# Altium footprint library QFP_Shrink_Sq_40P_Side_L.PcbLib: 26 footprints (part 2 of 3)
Each footprint in its own frame and in the unit in brackets; x right, y up, seen from the top. Pads: shape width x height; smd on the part's side, far side on the other; paste and mask are expansions set on the pad; w line width, h text height; cw(c..) or ccw(c..) is an arc to the next point about the centre after c.
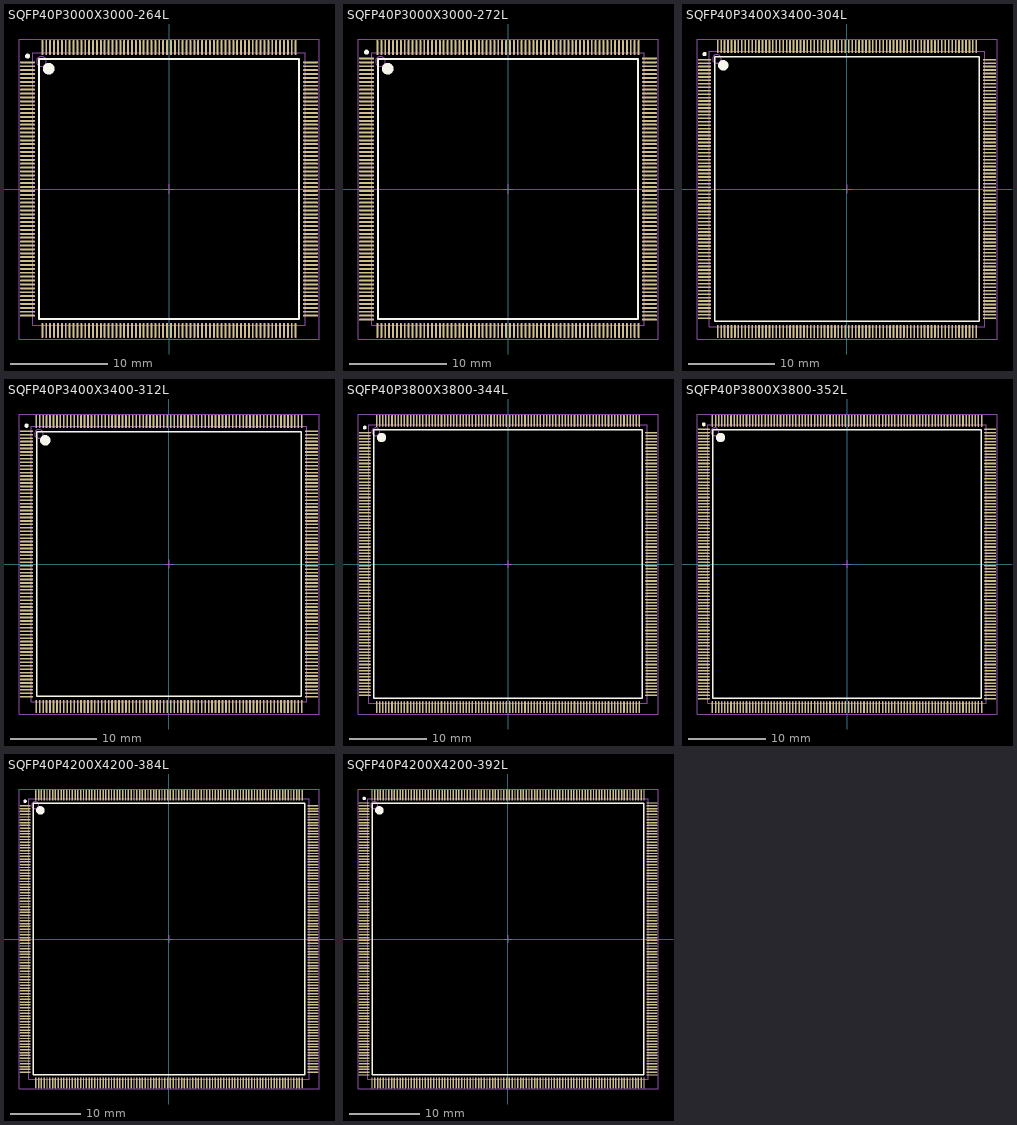
[diagram p1: the footprints below, top view; thin cyan lines are the x and y axes]

## SQFP40P3000X3000-264L [mm] "Shrink QFP, 264-Leads, Body 28x28mm, Pitch 0.4mm, IPC High Density"
height 3.75
pads (264):
  oval 1.55x0.2 smd: 1(-14.525,13) 2(-14.525,12.6) 3(-14.525,12.2) 4(-14.525,11.8) 5(-14.525,11.4) 6(-14.525,11) 7(-14.525,10.6) 8(-14.525,10.2) 9(-14.525,9.8) 10(-14.525,9.4) 11(-14.525,9) 12(-14.525,8.6) 13(-14.525,8.2) 14(-14.525,7.8) 15(-14.525,7.4) 16(-14.525,7) 17(-14.525,6.6) 18(-14.525,6.2) 19(-14.525,5.8) 20(-14.525,5.4) 21(-14.525,5) 22(-14.525,4.6) 23(-14.525,4.2) 24(-14.525,3.8) 25(-14.525,3.4) 26(-14.525,3) 27(-14.525,2.6) 28(-14.525,2.2) 29(-14.525,1.8) 30(-14.525,1.4) 31(-14.525,1) 32(-14.525,0.6) 33(-14.525,0.2) 34(-14.525,-0.2) 35(-14.525,-0.6) 36(-14.525,-1) 37(-14.525,-1.4) 38(-14.525,-1.8) 39(-14.525,-2.2) 40(-14.525,-2.6) 41(-14.525,-3) 42(-14.525,-3.4) 43(-14.525,-3.8) 44(-14.525,-4.2) 45(-14.525,-4.6) 46(-14.525,-5) 47(-14.525,-5.4) 48(-14.525,-5.8) 49(-14.525,-6.2) 50(-14.525,-6.6) 51(-14.525,-7) 52(-14.525,-7.4) 53(-14.525,-7.8) 54(-14.525,-8.2) 55(-14.525,-8.6) 56(-14.525,-9) 57(-14.525,-9.4) 58(-14.525,-9.8) 59(-14.525,-10.2) 60(-14.525,-10.6) 61(-14.525,-11) 62(-14.525,-11.4) 63(-14.525,-11.8) 64(-14.525,-12.2) 65(-14.525,-12.6) 66(-14.525,-13) 133(14.525,-13) 134(14.525,-12.6) 135(14.525,-12.2) 136(14.525,-11.8) 137(14.525,-11.4) 138(14.525,-11) 139(14.525,-10.6) 140(14.525,-10.2) 141(14.525,-9.8) 142(14.525,-9.4) 143(14.525,-9) 144(14.525,-8.6) 145(14.525,-8.2) 146(14.525,-7.8) 147(14.525,-7.4) 148(14.525,-7) 149(14.525,-6.6) 150(14.525,-6.2) 151(14.525,-5.8) 152(14.525,-5.4) 153(14.525,-5) 154(14.525,-4.6) 155(14.525,-4.2) 156(14.525,-3.8) 157(14.525,-3.4) 158(14.525,-3) 159(14.525,-2.6) 160(14.525,-2.2) 161(14.525,-1.8) 162(14.525,-1.4) 163(14.525,-1) 164(14.525,-0.6) 165(14.525,-0.2) 166(14.525,0.2) 167(14.525,0.6) 168(14.525,1) 169(14.525,1.4) 170(14.525,1.8) 171(14.525,2.2) 172(14.525,2.6) 173(14.525,3) 174(14.525,3.4) 175(14.525,3.8) 176(14.525,4.2) 177(14.525,4.6) 178(14.525,5) 179(14.525,5.4) 180(14.525,5.8) 181(14.525,6.2) 182(14.525,6.6) 183(14.525,7) 184(14.525,7.4) 185(14.525,7.8) 186(14.525,8.2) 187(14.525,8.6) 188(14.525,9) 189(14.525,9.4) 190(14.525,9.8) 191(14.525,10.2) 192(14.525,10.6) 193(14.525,11) 194(14.525,11.4) 195(14.525,11.8) 196(14.525,12.2) 197(14.525,12.6) 198(14.525,13)
  oval 0.2x1.55 smd: 67(-13,-14.525) 68(-12.6,-14.525) 69(-12.2,-14.525) 70(-11.8,-14.525) 71(-11.4,-14.525) 72(-11,-14.525) 73(-10.6,-14.525) 74(-10.2,-14.525) 75(-9.8,-14.525) 76(-9.4,-14.525) 77(-9,-14.525) 78(-8.6,-14.525) 79(-8.2,-14.525) 80(-7.8,-14.525) 81(-7.4,-14.525) 82(-7,-14.525) 83(-6.6,-14.525) 84(-6.2,-14.525) 85(-5.8,-14.525) 86(-5.4,-14.525) 87(-5,-14.525) 88(-4.6,-14.525) 89(-4.2,-14.525) 90(-3.8,-14.525) 91(-3.4,-14.525) 92(-3,-14.525) 93(-2.6,-14.525) 94(-2.2,-14.525) 95(-1.8,-14.525) 96(-1.4,-14.525) 97(-1,-14.525) 98(-0.6,-14.525) 99(-0.2,-14.525) 100(0.2,-14.525) 101(0.6,-14.525) 102(1,-14.525) 103(1.4,-14.525) 104(1.8,-14.525) 105(2.2,-14.525) 106(2.6,-14.525) 107(3,-14.525) 108(3.4,-14.525) 109(3.8,-14.525) 110(4.2,-14.525) 111(4.6,-14.525) 112(5,-14.525) 113(5.4,-14.525) 114(5.8,-14.525) 115(6.2,-14.525) 116(6.6,-14.525) 117(7,-14.525) 118(7.4,-14.525) 119(7.8,-14.525) 120(8.2,-14.525) 121(8.6,-14.525) 122(9,-14.525) 123(9.4,-14.525) 124(9.8,-14.525) 125(10.2,-14.525) 126(10.6,-14.525) 127(11,-14.525) 128(11.4,-14.525) 129(11.8,-14.525) 130(12.2,-14.525) 131(12.6,-14.525) 132(13,-14.525) 199(13,14.525) 200(12.6,14.525) 201(12.2,14.525) 202(11.8,14.525) 203(11.4,14.525) 204(11,14.525) 205(10.6,14.525) 206(10.2,14.525) 207(9.8,14.525) 208(9.4,14.525) 209(9,14.525) 210(8.6,14.525) 211(8.2,14.525) 212(7.8,14.525) 213(7.4,14.525) 214(7,14.525) 215(6.6,14.525) 216(6.2,14.525) 217(5.8,14.525) 218(5.4,14.525) 219(5,14.525) 220(4.6,14.525) 221(4.2,14.525) 222(3.8,14.525) 223(3.4,14.525) 224(3,14.525) 225(2.6,14.525) 226(2.2,14.525) 227(1.8,14.525) 228(1.4,14.525) 229(1,14.525) 230(0.6,14.525) 231(0.2,14.525) 232(-0.2,14.525) 233(-0.6,14.525) 234(-1,14.525) 235(-1.4,14.525) 236(-1.8,14.525) 237(-2.2,14.525) 238(-2.6,14.525) 239(-3,14.525) 240(-3.4,14.525) 241(-3.8,14.525) 242(-4.2,14.525) 243(-4.6,14.525) 244(-5,14.525) 245(-5.4,14.525) 246(-5.8,14.525) 247(-6.2,14.525) 248(-6.6,14.525) 249(-7,14.525) 250(-7.4,14.525) 251(-7.8,14.525) 252(-8.2,14.525) 253(-8.6,14.525) 254(-9,14.525) 255(-9.4,14.525) 256(-9.8,14.525) 257(-10.2,14.525) 258(-10.6,14.525) 259(-11,14.525) 260(-11.4,14.525) 261(-11.8,14.525) 262(-12.2,14.525) 263(-12.6,14.525) 264(-13,14.525)
Top Overlay:
  circle w0.6: c-12.35,12.35 r0.3
  circle w0.25: c-14.525,13.65 r0.125
  lines w0.2: -13.35,-13.35 13.35,-13.35 13.35,13.35 -13.35,13.35 -13.35,-13.35
Mechanical 13:
  circle w0.1: c-13.1,13.1 r0.5
  lines w0.1: -14,-14 14,-14 14,14 -14,14 -14,-14
Mechanical 15:
  lines w0.1: -0.5,0 0.5,0 ; 0,-0.5 0,0.5 ; -15.4,-15.4 15.4,-15.4 15.4,15.4 -15.4,15.4 -15.4,-15.4
3D body: height 3.75, standoff 0, extent -14,-14 14,14

## SQFP40P3000X3000-272L [mm] "Shrink QFP, 272-Leads, Body 28x28mm, Pitch 0.4mm, IPC High Density"
height 3.75
pads (272):
  oval 1.55x0.2 smd: 1(-14.525,13.4) 2(-14.525,13) 3(-14.525,12.6) 4(-14.525,12.2) 5(-14.525,11.8) 6(-14.525,11.4) 7(-14.525,11) 8(-14.525,10.6) 9(-14.525,10.2) 10(-14.525,9.8) 11(-14.525,9.4) 12(-14.525,9) 13(-14.525,8.6) 14(-14.525,8.2) 15(-14.525,7.8) 16(-14.525,7.4) 17(-14.525,7) 18(-14.525,6.6) 19(-14.525,6.2) 20(-14.525,5.8) 21(-14.525,5.4) 22(-14.525,5) 23(-14.525,4.6) 24(-14.525,4.2) 25(-14.525,3.8) 26(-14.525,3.4) 27(-14.525,3) 28(-14.525,2.6) 29(-14.525,2.2) 30(-14.525,1.8) 31(-14.525,1.4) 32(-14.525,1) 33(-14.525,0.6) 34(-14.525,0.2) 35(-14.525,-0.2) 36(-14.525,-0.6) 37(-14.525,-1) 38(-14.525,-1.4) 39(-14.525,-1.8) 40(-14.525,-2.2) 41(-14.525,-2.6) 42(-14.525,-3) 43(-14.525,-3.4) 44(-14.525,-3.8) 45(-14.525,-4.2) 46(-14.525,-4.6) 47(-14.525,-5) 48(-14.525,-5.4) 49(-14.525,-5.8) 50(-14.525,-6.2) 51(-14.525,-6.6) 52(-14.525,-7) 53(-14.525,-7.4) 54(-14.525,-7.8) 55(-14.525,-8.2) 56(-14.525,-8.6) 57(-14.525,-9) 58(-14.525,-9.4) 59(-14.525,-9.8) 60(-14.525,-10.2) 61(-14.525,-10.6) 62(-14.525,-11) 63(-14.525,-11.4) 64(-14.525,-11.8) 65(-14.525,-12.2) 66(-14.525,-12.6) 67(-14.525,-13) 68(-14.525,-13.4) 137(14.525,-13.4) 138(14.525,-13) 139(14.525,-12.6) 140(14.525,-12.2) 141(14.525,-11.8) 142(14.525,-11.4) 143(14.525,-11) 144(14.525,-10.6) 145(14.525,-10.2) 146(14.525,-9.8) 147(14.525,-9.4) 148(14.525,-9) 149(14.525,-8.6) 150(14.525,-8.2) 151(14.525,-7.8) 152(14.525,-7.4) 153(14.525,-7) 154(14.525,-6.6) 155(14.525,-6.2) 156(14.525,-5.8) 157(14.525,-5.4) 158(14.525,-5) 159(14.525,-4.6) 160(14.525,-4.2) 161(14.525,-3.8) 162(14.525,-3.4) 163(14.525,-3) 164(14.525,-2.6) 165(14.525,-2.2) 166(14.525,-1.8) 167(14.525,-1.4) 168(14.525,-1) 169(14.525,-0.6) 170(14.525,-0.2) 171(14.525,0.2) 172(14.525,0.6) 173(14.525,1) 174(14.525,1.4) 175(14.525,1.8) 176(14.525,2.2) 177(14.525,2.6) 178(14.525,3) 179(14.525,3.4) 180(14.525,3.8) 181(14.525,4.2) 182(14.525,4.6) 183(14.525,5) 184(14.525,5.4) 185(14.525,5.8) 186(14.525,6.2) 187(14.525,6.6) 188(14.525,7) 189(14.525,7.4) 190(14.525,7.8) 191(14.525,8.2) 192(14.525,8.6) 193(14.525,9) 194(14.525,9.4) 195(14.525,9.8) 196(14.525,10.2) 197(14.525,10.6) 198(14.525,11) 199(14.525,11.4) 200(14.525,11.8) 201(14.525,12.2) 202(14.525,12.6) 203(14.525,13) 204(14.525,13.4)
  oval 0.2x1.55 smd: 69(-13.4,-14.525) 70(-13,-14.525) 71(-12.6,-14.525) 72(-12.2,-14.525) 73(-11.8,-14.525) 74(-11.4,-14.525) 75(-11,-14.525) 76(-10.6,-14.525) 77(-10.2,-14.525) 78(-9.8,-14.525) 79(-9.4,-14.525) 80(-9,-14.525) 81(-8.6,-14.525) 82(-8.2,-14.525) 83(-7.8,-14.525) 84(-7.4,-14.525) 85(-7,-14.525) 86(-6.6,-14.525) 87(-6.2,-14.525) 88(-5.8,-14.525) 89(-5.4,-14.525) 90(-5,-14.525) 91(-4.6,-14.525) 92(-4.2,-14.525) 93(-3.8,-14.525) 94(-3.4,-14.525) 95(-3,-14.525) 96(-2.6,-14.525) 97(-2.2,-14.525) 98(-1.8,-14.525) 99(-1.4,-14.525) 100(-1,-14.525) 101(-0.6,-14.525) 102(-0.2,-14.525) 103(0.2,-14.525) 104(0.6,-14.525) 105(1,-14.525) 106(1.4,-14.525) 107(1.8,-14.525) 108(2.2,-14.525) 109(2.6,-14.525) 110(3,-14.525) 111(3.4,-14.525) 112(3.8,-14.525) 113(4.2,-14.525) 114(4.6,-14.525) 115(5,-14.525) 116(5.4,-14.525) 117(5.8,-14.525) 118(6.2,-14.525) 119(6.6,-14.525) 120(7,-14.525) 121(7.4,-14.525) 122(7.8,-14.525) 123(8.2,-14.525) 124(8.6,-14.525) 125(9,-14.525) 126(9.4,-14.525) 127(9.8,-14.525) 128(10.2,-14.525) 129(10.6,-14.525) 130(11,-14.525) 131(11.4,-14.525) 132(11.8,-14.525) 133(12.2,-14.525) 134(12.6,-14.525) 135(13,-14.525) 136(13.4,-14.525) 205(13.4,14.525) 206(13,14.525) 207(12.6,14.525) 208(12.2,14.525) 209(11.8,14.525) 210(11.4,14.525) 211(11,14.525) 212(10.6,14.525) 213(10.2,14.525) 214(9.8,14.525) 215(9.4,14.525) 216(9,14.525) 217(8.6,14.525) 218(8.2,14.525) 219(7.8,14.525) 220(7.4,14.525) 221(7,14.525) 222(6.6,14.525) 223(6.2,14.525) 224(5.8,14.525) 225(5.4,14.525) 226(5,14.525) 227(4.6,14.525) 228(4.2,14.525) 229(3.8,14.525) 230(3.4,14.525) 231(3,14.525) 232(2.6,14.525) 233(2.2,14.525) 234(1.8,14.525) 235(1.4,14.525) 236(1,14.525) 237(0.6,14.525) 238(0.2,14.525) 239(-0.2,14.525) 240(-0.6,14.525) 241(-1,14.525) 242(-1.4,14.525) 243(-1.8,14.525) 244(-2.2,14.525) 245(-2.6,14.525) 246(-3,14.525) 247(-3.4,14.525) 248(-3.8,14.525) 249(-4.2,14.525) 250(-4.6,14.525) 251(-5,14.525) 252(-5.4,14.525) 253(-5.8,14.525) 254(-6.2,14.525) 255(-6.6,14.525) 256(-7,14.525) 257(-7.4,14.525) 258(-7.8,14.525) 259(-8.2,14.525) 260(-8.6,14.525) 261(-9,14.525) 262(-9.4,14.525) 263(-9.8,14.525) 264(-10.2,14.525) 265(-10.6,14.525) 266(-11,14.525) 267(-11.4,14.525) 268(-11.8,14.525) 269(-12.2,14.525) 270(-12.6,14.525) 271(-13,14.525) 272(-13.4,14.525)
Top Overlay:
  circle w0.6: c-12.35,12.35 r0.3
  circle w0.25: c-14.525,14.05 r0.125
  lines w0.2: -13.35,-13.35 13.35,-13.35 13.35,13.35 -13.35,13.35 -13.35,-13.35
Mechanical 13:
  circle w0.1: c-13.1,13.1 r0.5
  lines w0.1: -14,-14 14,-14 14,14 -14,14 -14,-14
Mechanical 15:
  lines w0.1: -0.5,0 0.5,0 ; 0,-0.5 0,0.5 ; -15.4,-15.4 15.4,-15.4 15.4,15.4 -15.4,15.4 -15.4,-15.4
3D body: height 3.75, standoff 0, extent -14,-14 14,14

## SQFP40P3400X3400-304L [mm] "Shrink QFP, 304-Leads, Body 32x32mm, Pitch 0.4mm, IPC High Density"
height 4.2
pads (304):
  oval 1.55x0.2 smd: 1(-16.525,15) 2(-16.525,14.6) 3(-16.525,14.2) 4(-16.525,13.8) 5(-16.525,13.4) 6(-16.525,13) 7(-16.525,12.6) 8(-16.525,12.2) 9(-16.525,11.8) 10(-16.525,11.4) 11(-16.525,11) 12(-16.525,10.6) 13(-16.525,10.2) 14(-16.525,9.8) 15(-16.525,9.4) 16(-16.525,9) 17(-16.525,8.6) 18(-16.525,8.2) 19(-16.525,7.8) 20(-16.525,7.4) 21(-16.525,7) 22(-16.525,6.6) 23(-16.525,6.2) 24(-16.525,5.8) 25(-16.525,5.4) 26(-16.525,5) 27(-16.525,4.6) 28(-16.525,4.2) 29(-16.525,3.8) 30(-16.525,3.4) 31(-16.525,3) 32(-16.525,2.6) 33(-16.525,2.2) 34(-16.525,1.8) 35(-16.525,1.4) 36(-16.525,1) 37(-16.525,0.6) 38(-16.525,0.2) 39(-16.525,-0.2) 40(-16.525,-0.6) 41(-16.525,-1) 42(-16.525,-1.4) 43(-16.525,-1.8) 44(-16.525,-2.2) 45(-16.525,-2.6) 46(-16.525,-3) 47(-16.525,-3.4) 48(-16.525,-3.8) 49(-16.525,-4.2) 50(-16.525,-4.6) 51(-16.525,-5) 52(-16.525,-5.4) 53(-16.525,-5.8) 54(-16.525,-6.2) 55(-16.525,-6.6) 56(-16.525,-7) 57(-16.525,-7.4) 58(-16.525,-7.8) 59(-16.525,-8.2) 60(-16.525,-8.6) 61(-16.525,-9) 62(-16.525,-9.4) 63(-16.525,-9.8) 64(-16.525,-10.2) 65(-16.525,-10.6) 66(-16.525,-11) 67(-16.525,-11.4) 68(-16.525,-11.8) 69(-16.525,-12.2) 70(-16.525,-12.6) 71(-16.525,-13) 72(-16.525,-13.4) 73(-16.525,-13.8) 74(-16.525,-14.2) 75(-16.525,-14.6) 76(-16.525,-15) 153(16.525,-15) 154(16.525,-14.6) 155(16.525,-14.2) 156(16.525,-13.8) 157(16.525,-13.4) 158(16.525,-13) 159(16.525,-12.6) 160(16.525,-12.2) 161(16.525,-11.8) 162(16.525,-11.4) 163(16.525,-11) 164(16.525,-10.6) 165(16.525,-10.2) 166(16.525,-9.8) 167(16.525,-9.4) 168(16.525,-9) 169(16.525,-8.6) 170(16.525,-8.2) 171(16.525,-7.8) 172(16.525,-7.4) 173(16.525,-7) 174(16.525,-6.6) 175(16.525,-6.2) 176(16.525,-5.8) 177(16.525,-5.4) 178(16.525,-5) 179(16.525,-4.6) 180(16.525,-4.2) 181(16.525,-3.8) 182(16.525,-3.4) 183(16.525,-3) 184(16.525,-2.6) 185(16.525,-2.2) 186(16.525,-1.8) 187(16.525,-1.4) 188(16.525,-1) 189(16.525,-0.6) 190(16.525,-0.2) 191(16.525,0.2) 192(16.525,0.6) 193(16.525,1) 194(16.525,1.4) 195(16.525,1.8) 196(16.525,2.2) 197(16.525,2.6) 198(16.525,3) 199(16.525,3.4) 200(16.525,3.8) 201(16.525,4.2) 202(16.525,4.6) 203(16.525,5) 204(16.525,5.4) 205(16.525,5.8) 206(16.525,6.2) 207(16.525,6.6) 208(16.525,7) 209(16.525,7.4) 210(16.525,7.8) 211(16.525,8.2) 212(16.525,8.6) 213(16.525,9) 214(16.525,9.4) 215(16.525,9.8) 216(16.525,10.2) 217(16.525,10.6) 218(16.525,11) 219(16.525,11.4) 220(16.525,11.8) 221(16.525,12.2) 222(16.525,12.6) 223(16.525,13) 224(16.525,13.4) 225(16.525,13.8) 226(16.525,14.2) 227(16.525,14.6) 228(16.525,15)
  oval 0.2x1.55 smd: 77(-15,-16.525) 78(-14.6,-16.525) 79(-14.2,-16.525) 80(-13.8,-16.525) 81(-13.4,-16.525) 82(-13,-16.525) 83(-12.6,-16.525) 84(-12.2,-16.525) 85(-11.8,-16.525) 86(-11.4,-16.525) 87(-11,-16.525) 88(-10.6,-16.525) 89(-10.2,-16.525) 90(-9.8,-16.525) 91(-9.4,-16.525) 92(-9,-16.525) 93(-8.6,-16.525) 94(-8.2,-16.525) 95(-7.8,-16.525) 96(-7.4,-16.525) 97(-7,-16.525) 98(-6.6,-16.525) 99(-6.2,-16.525) 100(-5.8,-16.525) 101(-5.4,-16.525) 102(-5,-16.525) 103(-4.6,-16.525) 104(-4.2,-16.525) 105(-3.8,-16.525) 106(-3.4,-16.525) 107(-3,-16.525) 108(-2.6,-16.525) 109(-2.2,-16.525) 110(-1.8,-16.525) 111(-1.4,-16.525) 112(-1,-16.525) 113(-0.6,-16.525) 114(-0.2,-16.525) 115(0.2,-16.525) 116(0.6,-16.525) 117(1,-16.525) 118(1.4,-16.525) 119(1.8,-16.525) 120(2.2,-16.525) 121(2.6,-16.525) 122(3,-16.525) 123(3.4,-16.525) 124(3.8,-16.525) 125(4.2,-16.525) 126(4.6,-16.525) 127(5,-16.525) 128(5.4,-16.525) 129(5.8,-16.525) 130(6.2,-16.525) 131(6.6,-16.525) 132(7,-16.525) 133(7.4,-16.525) 134(7.8,-16.525) 135(8.2,-16.525) 136(8.6,-16.525) 137(9,-16.525) 138(9.4,-16.525) 139(9.8,-16.525) 140(10.2,-16.525) 141(10.6,-16.525) 142(11,-16.525) 143(11.4,-16.525) 144(11.8,-16.525) 145(12.2,-16.525) 146(12.6,-16.525) 147(13,-16.525) 148(13.4,-16.525) 149(13.8,-16.525) 150(14.2,-16.525) 151(14.6,-16.525) 152(15,-16.525) 229(15,16.525) 230(14.6,16.525) 231(14.2,16.525) 232(13.8,16.525) 233(13.4,16.525) 234(13,16.525) 235(12.6,16.525) 236(12.2,16.525) 237(11.8,16.525) 238(11.4,16.525) 239(11,16.525) 240(10.6,16.525) 241(10.2,16.525) 242(9.8,16.525) 243(9.4,16.525) 244(9,16.525) 245(8.6,16.525) 246(8.2,16.525) 247(7.8,16.525) 248(7.4,16.525) 249(7,16.525) 250(6.6,16.525) 251(6.2,16.525) 252(5.8,16.525) 253(5.4,16.525) 254(5,16.525) 255(4.6,16.525) 256(4.2,16.525) 257(3.8,16.525) 258(3.4,16.525) 259(3,16.525) 260(2.6,16.525) 261(2.2,16.525) 262(1.8,16.525) 263(1.4,16.525) 264(1,16.525) 265(0.6,16.525) 266(0.2,16.525) 267(-0.2,16.525) 268(-0.6,16.525) 269(-1,16.525) 270(-1.4,16.525) 271(-1.8,16.525) 272(-2.2,16.525) 273(-2.6,16.525) 274(-3,16.525) 275(-3.4,16.525) 276(-3.8,16.525) 277(-4.2,16.525) 278(-4.6,16.525) 279(-5,16.525) 280(-5.4,16.525) 281(-5.8,16.525) 282(-6.2,16.525) 283(-6.6,16.525) 284(-7,16.525) 285(-7.4,16.525) 286(-7.8,16.525) 287(-8.2,16.525) 288(-8.6,16.525) 289(-9,16.525) 290(-9.4,16.525) 291(-9.8,16.525) 292(-10.2,16.525) 293(-10.6,16.525) 294(-11,16.525) 295(-11.4,16.525) 296(-11.8,16.525) 297(-12.2,16.525) 298(-12.6,16.525) 299(-13,16.525) 300(-13.4,16.525) 301(-13.8,16.525) 302(-14.2,16.525) 303(-14.6,16.525) 304(-15,16.525)
Top Overlay:
  circle w0.6: c-14.35,14.35 r0.3
  circle w0.25: c-16.525,15.65 r0.125
  lines w0.2: -15.35,-15.35 15.35,-15.35 15.35,15.35 -15.35,15.35 -15.35,-15.35
Mechanical 13:
  circle w0.1: c-15.1,15.1 r0.5
  lines w0.1: -16,-16 16,-16 16,16 -16,16 -16,-16
Mechanical 15:
  lines w0.1: -0.5,0 0.5,0 ; 0,-0.5 0,0.5 ; -17.4,-17.4 17.4,-17.4 17.4,17.4 -17.4,17.4 -17.4,-17.4
3D body: height 4.2, standoff 0, extent -16,-16 16,16

## SQFP40P3400X3400-312L [mm] "Shrink QFP, 312-Leads, Body 32x32mm, Pitch 0.4mm, IPC High Density"
height 4.2
pads (312):
  oval 1.55x0.2 smd: 1(-16.525,15.4) 2(-16.525,15) 3(-16.525,14.6) 4(-16.525,14.2) 5(-16.525,13.8) 6(-16.525,13.4) 7(-16.525,13) 8(-16.525,12.6) 9(-16.525,12.2) 10(-16.525,11.8) 11(-16.525,11.4) 12(-16.525,11) 13(-16.525,10.6) 14(-16.525,10.2) 15(-16.525,9.8) 16(-16.525,9.4) 17(-16.525,9) 18(-16.525,8.6) 19(-16.525,8.2) 20(-16.525,7.8) 21(-16.525,7.4) 22(-16.525,7) 23(-16.525,6.6) 24(-16.525,6.2) 25(-16.525,5.8) 26(-16.525,5.4) 27(-16.525,5) 28(-16.525,4.6) 29(-16.525,4.2) 30(-16.525,3.8) 31(-16.525,3.4) 32(-16.525,3) 33(-16.525,2.6) 34(-16.525,2.2) 35(-16.525,1.8) 36(-16.525,1.4) 37(-16.525,1) 38(-16.525,0.6) 39(-16.525,0.2) 40(-16.525,-0.2) 41(-16.525,-0.6) 42(-16.525,-1) 43(-16.525,-1.4) 44(-16.525,-1.8) 45(-16.525,-2.2) 46(-16.525,-2.6) 47(-16.525,-3) 48(-16.525,-3.4) 49(-16.525,-3.8) 50(-16.525,-4.2) 51(-16.525,-4.6) 52(-16.525,-5) 53(-16.525,-5.4) 54(-16.525,-5.8) 55(-16.525,-6.2) 56(-16.525,-6.6) 57(-16.525,-7) 58(-16.525,-7.4) 59(-16.525,-7.8) 60(-16.525,-8.2) 61(-16.525,-8.6) 62(-16.525,-9) 63(-16.525,-9.4) 64(-16.525,-9.8) 65(-16.525,-10.2) 66(-16.525,-10.6) 67(-16.525,-11) 68(-16.525,-11.4) 69(-16.525,-11.8) 70(-16.525,-12.2) 71(-16.525,-12.6) 72(-16.525,-13) 73(-16.525,-13.4) 74(-16.525,-13.8) 75(-16.525,-14.2) 76(-16.525,-14.6) 77(-16.525,-15) 78(-16.525,-15.4) 157(16.525,-15.4) 158(16.525,-15) 159(16.525,-14.6) 160(16.525,-14.2) 161(16.525,-13.8) 162(16.525,-13.4) 163(16.525,-13) 164(16.525,-12.6) 165(16.525,-12.2) 166(16.525,-11.8) 167(16.525,-11.4) 168(16.525,-11) 169(16.525,-10.6) 170(16.525,-10.2) 171(16.525,-9.8) 172(16.525,-9.4) 173(16.525,-9) 174(16.525,-8.6) 175(16.525,-8.2) 176(16.525,-7.8) 177(16.525,-7.4) 178(16.525,-7) 179(16.525,-6.6) 180(16.525,-6.2) 181(16.525,-5.8) 182(16.525,-5.4) 183(16.525,-5) 184(16.525,-4.6) 185(16.525,-4.2) 186(16.525,-3.8) 187(16.525,-3.4) 188(16.525,-3) 189(16.525,-2.6) 190(16.525,-2.2) 191(16.525,-1.8) 192(16.525,-1.4) 193(16.525,-1) 194(16.525,-0.6) 195(16.525,-0.2) 196(16.525,0.2) 197(16.525,0.6) 198(16.525,1) 199(16.525,1.4) 200(16.525,1.8) 201(16.525,2.2) 202(16.525,2.6) 203(16.525,3) 204(16.525,3.4) 205(16.525,3.8) 206(16.525,4.2) 207(16.525,4.6) 208(16.525,5) 209(16.525,5.4) 210(16.525,5.8) 211(16.525,6.2) 212(16.525,6.6) 213(16.525,7) 214(16.525,7.4) 215(16.525,7.8) 216(16.525,8.2) 217(16.525,8.6) 218(16.525,9) 219(16.525,9.4) 220(16.525,9.8) 221(16.525,10.2) 222(16.525,10.6) 223(16.525,11) 224(16.525,11.4) 225(16.525,11.8) 226(16.525,12.2) 227(16.525,12.6) 228(16.525,13) 229(16.525,13.4) 230(16.525,13.8) 231(16.525,14.2) 232(16.525,14.6) 233(16.525,15) 234(16.525,15.4)
  oval 0.2x1.55 smd: 79(-15.4,-16.525) 80(-15,-16.525) 81(-14.6,-16.525) 82(-14.2,-16.525) 83(-13.8,-16.525) 84(-13.4,-16.525) 85(-13,-16.525) 86(-12.6,-16.525) 87(-12.2,-16.525) 88(-11.8,-16.525) 89(-11.4,-16.525) 90(-11,-16.525) 91(-10.6,-16.525) 92(-10.2,-16.525) 93(-9.8,-16.525) 94(-9.4,-16.525) 95(-9,-16.525) 96(-8.6,-16.525) 97(-8.2,-16.525) 98(-7.8,-16.525) 99(-7.4,-16.525) 100(-7,-16.525) 101(-6.6,-16.525) 102(-6.2,-16.525) 103(-5.8,-16.525) 104(-5.4,-16.525) 105(-5,-16.525) 106(-4.6,-16.525) 107(-4.2,-16.525) 108(-3.8,-16.525) 109(-3.4,-16.525) 110(-3,-16.525) 111(-2.6,-16.525) 112(-2.2,-16.525) 113(-1.8,-16.525) 114(-1.4,-16.525) 115(-1,-16.525) 116(-0.6,-16.525) 117(-0.2,-16.525) 118(0.2,-16.525) 119(0.6,-16.525) 120(1,-16.525) 121(1.4,-16.525) 122(1.8,-16.525) 123(2.2,-16.525) 124(2.6,-16.525) 125(3,-16.525) 126(3.4,-16.525) 127(3.8,-16.525) 128(4.2,-16.525) 129(4.6,-16.525) 130(5,-16.525) 131(5.4,-16.525) 132(5.8,-16.525) 133(6.2,-16.525) 134(6.6,-16.525) 135(7,-16.525) 136(7.4,-16.525) 137(7.8,-16.525) 138(8.2,-16.525) 139(8.6,-16.525) 140(9,-16.525) 141(9.4,-16.525) 142(9.8,-16.525) 143(10.2,-16.525) 144(10.6,-16.525) 145(11,-16.525) 146(11.4,-16.525) 147(11.8,-16.525) 148(12.2,-16.525) 149(12.6,-16.525) 150(13,-16.525) 151(13.4,-16.525) 152(13.8,-16.525) 153(14.2,-16.525) 154(14.6,-16.525) 155(15,-16.525) 156(15.4,-16.525) 235(15.4,16.525) 236(15,16.525) 237(14.6,16.525) 238(14.2,16.525) 239(13.8,16.525) 240(13.4,16.525) 241(13,16.525) 242(12.6,16.525) 243(12.2,16.525) 244(11.8,16.525) 245(11.4,16.525) 246(11,16.525) 247(10.6,16.525) 248(10.2,16.525) 249(9.8,16.525) 250(9.4,16.525) 251(9,16.525) 252(8.6,16.525) 253(8.2,16.525) 254(7.8,16.525) 255(7.4,16.525) 256(7,16.525) 257(6.6,16.525) 258(6.2,16.525) 259(5.8,16.525) 260(5.4,16.525) 261(5,16.525) 262(4.6,16.525) 263(4.2,16.525) 264(3.8,16.525) 265(3.4,16.525) 266(3,16.525) 267(2.6,16.525) 268(2.2,16.525) 269(1.8,16.525) 270(1.4,16.525) 271(1,16.525) 272(0.6,16.525) 273(0.2,16.525) 274(-0.2,16.525) 275(-0.6,16.525) 276(-1,16.525) 277(-1.4,16.525) 278(-1.8,16.525) 279(-2.2,16.525) 280(-2.6,16.525) 281(-3,16.525) 282(-3.4,16.525) 283(-3.8,16.525) 284(-4.2,16.525) 285(-4.6,16.525) 286(-5,16.525) 287(-5.4,16.525) 288(-5.8,16.525) 289(-6.2,16.525) 290(-6.6,16.525) 291(-7,16.525) 292(-7.4,16.525) 293(-7.8,16.525) 294(-8.2,16.525) 295(-8.6,16.525) 296(-9,16.525) 297(-9.4,16.525) 298(-9.8,16.525) 299(-10.2,16.525) 300(-10.6,16.525) 301(-11,16.525) 302(-11.4,16.525) 303(-11.8,16.525) 304(-12.2,16.525) 305(-12.6,16.525) 306(-13,16.525) 307(-13.4,16.525) 308(-13.8,16.525) 309(-14.2,16.525) 310(-14.6,16.525) 311(-15,16.525) 312(-15.4,16.525)
Top Overlay:
  circle w0.6: c-14.35,14.35 r0.3
  circle w0.25: c-16.525,16.05 r0.125
  lines w0.2: -15.35,-15.35 15.35,-15.35 15.35,15.35 -15.35,15.35 -15.35,-15.35
Mechanical 13:
  circle w0.1: c-15.1,15.1 r0.5
  lines w0.1: -16,-16 16,-16 16,16 -16,16 -16,-16
Mechanical 15:
  lines w0.1: -0.5,0 0.5,0 ; 0,-0.5 0,0.5 ; -17.4,-17.4 17.4,-17.4 17.4,17.4 -17.4,17.4 -17.4,-17.4
3D body: height 4.2, standoff 0, extent -16,-16 16,16

## SQFP40P3800X3800-344L [mm] "Shrink QFP, 344-Leads, Body 36x36mm, Pitch 0.4mm, IPC High Density"
height 4.2
pads (344):
  oval 1.55x0.2 smd: 1(-18.525,17) 2(-18.525,16.6) 3(-18.525,16.2) 4(-18.525,15.8) 5(-18.525,15.4) 6(-18.525,15) 7(-18.525,14.6) 8(-18.525,14.2) 9(-18.525,13.8) 10(-18.525,13.4) 11(-18.525,13) 12(-18.525,12.6) 13(-18.525,12.2) 14(-18.525,11.8) 15(-18.525,11.4) 16(-18.525,11) 17(-18.525,10.6) 18(-18.525,10.2) 19(-18.525,9.8) 20(-18.525,9.4) 21(-18.525,9) 22(-18.525,8.6) 23(-18.525,8.2) 24(-18.525,7.8) 25(-18.525,7.4) 26(-18.525,7) 27(-18.525,6.6) 28(-18.525,6.2) 29(-18.525,5.8) 30(-18.525,5.4) 31(-18.525,5) 32(-18.525,4.6) 33(-18.525,4.2) 34(-18.525,3.8) 35(-18.525,3.4) 36(-18.525,3) 37(-18.525,2.6) 38(-18.525,2.2) 39(-18.525,1.8) 40(-18.525,1.4) 41(-18.525,1) 42(-18.525,0.6) 43(-18.525,0.2) 44(-18.525,-0.2) 45(-18.525,-0.6) 46(-18.525,-1) 47(-18.525,-1.4) 48(-18.525,-1.8) 49(-18.525,-2.2) 50(-18.525,-2.6) 51(-18.525,-3) 52(-18.525,-3.4) 53(-18.525,-3.8) 54(-18.525,-4.2) 55(-18.525,-4.6) 56(-18.525,-5) 57(-18.525,-5.4) 58(-18.525,-5.8) 59(-18.525,-6.2) 60(-18.525,-6.6) 61(-18.525,-7) 62(-18.525,-7.4) 63(-18.525,-7.8) 64(-18.525,-8.2) 65(-18.525,-8.6) 66(-18.525,-9) 67(-18.525,-9.4) 68(-18.525,-9.8) 69(-18.525,-10.2) 70(-18.525,-10.6) 71(-18.525,-11) 72(-18.525,-11.4) 73(-18.525,-11.8) 74(-18.525,-12.2) 75(-18.525,-12.6) 76(-18.525,-13) 77(-18.525,-13.4) 78(-18.525,-13.8) 79(-18.525,-14.2) 80(-18.525,-14.6) 81(-18.525,-15) 82(-18.525,-15.4) 83(-18.525,-15.8) 84(-18.525,-16.2) 85(-18.525,-16.6) 86(-18.525,-17) 173(18.525,-17) 174(18.525,-16.6) 175(18.525,-16.2) 176(18.525,-15.8) 177(18.525,-15.4) 178(18.525,-15) 179(18.525,-14.6) 180(18.525,-14.2) 181(18.525,-13.8) 182(18.525,-13.4) 183(18.525,-13) 184(18.525,-12.6) 185(18.525,-12.2) 186(18.525,-11.8) 187(18.525,-11.4) 188(18.525,-11) 189(18.525,-10.6) 190(18.525,-10.2) 191(18.525,-9.8) 192(18.525,-9.4) 193(18.525,-9) 194(18.525,-8.6) 195(18.525,-8.2) 196(18.525,-7.8) 197(18.525,-7.4) 198(18.525,-7) 199(18.525,-6.6) 200(18.525,-6.2) 201(18.525,-5.8) 202(18.525,-5.4) 203(18.525,-5) 204(18.525,-4.6) 205(18.525,-4.2) 206(18.525,-3.8) 207(18.525,-3.4) 208(18.525,-3) 209(18.525,-2.6) 210(18.525,-2.2) 211(18.525,-1.8) 212(18.525,-1.4) 213(18.525,-1) 214(18.525,-0.6) 215(18.525,-0.2) 216(18.525,0.2) 217(18.525,0.6) 218(18.525,1) 219(18.525,1.4) 220(18.525,1.8) 221(18.525,2.2) 222(18.525,2.6) 223(18.525,3) 224(18.525,3.4) 225(18.525,3.8) 226(18.525,4.2) 227(18.525,4.6) 228(18.525,5) 229(18.525,5.4) 230(18.525,5.8) 231(18.525,6.2) 232(18.525,6.6) 233(18.525,7) 234(18.525,7.4) 235(18.525,7.8) 236(18.525,8.2) 237(18.525,8.6) 238(18.525,9) 239(18.525,9.4) 240(18.525,9.8) 241(18.525,10.2) 242(18.525,10.6) 243(18.525,11) 244(18.525,11.4) 245(18.525,11.8) 246(18.525,12.2) 247(18.525,12.6) 248(18.525,13) 249(18.525,13.4) 250(18.525,13.8) 251(18.525,14.2) 252(18.525,14.6) 253(18.525,15) 254(18.525,15.4) 255(18.525,15.8) 256(18.525,16.2) 257(18.525,16.6) 258(18.525,17)
  oval 0.2x1.55 smd: 87(-17,-18.525) 88(-16.6,-18.525) 89(-16.2,-18.525) 90(-15.8,-18.525) 91(-15.4,-18.525) 92(-15,-18.525) 93(-14.6,-18.525) 94(-14.2,-18.525) 95(-13.8,-18.525) 96(-13.4,-18.525) 97(-13,-18.525) 98(-12.6,-18.525) 99(-12.2,-18.525) 100(-11.8,-18.525) 101(-11.4,-18.525) 102(-11,-18.525) 103(-10.6,-18.525) 104(-10.2,-18.525) 105(-9.8,-18.525) 106(-9.4,-18.525) 107(-9,-18.525) 108(-8.6,-18.525) 109(-8.2,-18.525) 110(-7.8,-18.525) 111(-7.4,-18.525) 112(-7,-18.525) 113(-6.6,-18.525) 114(-6.2,-18.525) 115(-5.8,-18.525) 116(-5.4,-18.525) 117(-5,-18.525) 118(-4.6,-18.525) 119(-4.2,-18.525) 120(-3.8,-18.525) 121(-3.4,-18.525) 122(-3,-18.525) 123(-2.6,-18.525) 124(-2.2,-18.525) 125(-1.8,-18.525) 126(-1.4,-18.525) 127(-1,-18.525) 128(-0.6,-18.525) 129(-0.2,-18.525) 130(0.2,-18.525) 131(0.6,-18.525) 132(1,-18.525) 133(1.4,-18.525) 134(1.8,-18.525) 135(2.2,-18.525) 136(2.6,-18.525) 137(3,-18.525) 138(3.4,-18.525) 139(3.8,-18.525) 140(4.2,-18.525) 141(4.6,-18.525) 142(5,-18.525) 143(5.4,-18.525) 144(5.8,-18.525) 145(6.2,-18.525) 146(6.6,-18.525) 147(7,-18.525) 148(7.4,-18.525) 149(7.8,-18.525) 150(8.2,-18.525) 151(8.6,-18.525) 152(9,-18.525) 153(9.4,-18.525) 154(9.8,-18.525) 155(10.2,-18.525) 156(10.6,-18.525) 157(11,-18.525) 158(11.4,-18.525) 159(11.8,-18.525) 160(12.2,-18.525) 161(12.6,-18.525) 162(13,-18.525) 163(13.4,-18.525) 164(13.8,-18.525) 165(14.2,-18.525) 166(14.6,-18.525) 167(15,-18.525) 168(15.4,-18.525) 169(15.8,-18.525) 170(16.2,-18.525) 171(16.6,-18.525) 172(17,-18.525) 259(17,18.525) 260(16.6,18.525) 261(16.2,18.525) 262(15.8,18.525) 263(15.4,18.525) 264(15,18.525) 265(14.6,18.525) 266(14.2,18.525) 267(13.8,18.525) 268(13.4,18.525) 269(13,18.525) 270(12.6,18.525) 271(12.2,18.525) 272(11.8,18.525) 273(11.4,18.525) 274(11,18.525) 275(10.6,18.525) 276(10.2,18.525) 277(9.8,18.525) 278(9.4,18.525) 279(9,18.525) 280(8.6,18.525) 281(8.2,18.525) 282(7.8,18.525) 283(7.4,18.525) 284(7,18.525) 285(6.6,18.525) 286(6.2,18.525) 287(5.8,18.525) 288(5.4,18.525) 289(5,18.525) 290(4.6,18.525) 291(4.2,18.525) 292(3.8,18.525) 293(3.4,18.525) 294(3,18.525) 295(2.6,18.525) 296(2.2,18.525) 297(1.8,18.525) 298(1.4,18.525) 299(1,18.525) 300(0.6,18.525) 301(0.2,18.525) 302(-0.2,18.525) 303(-0.6,18.525) 304(-1,18.525) 305(-1.4,18.525) 306(-1.8,18.525) 307(-2.2,18.525) 308(-2.6,18.525) 309(-3,18.525) 310(-3.4,18.525) 311(-3.8,18.525) 312(-4.2,18.525) 313(-4.6,18.525) 314(-5,18.525) 315(-5.4,18.525) 316(-5.8,18.525) 317(-6.2,18.525) 318(-6.6,18.525) 319(-7,18.525) 320(-7.4,18.525) 321(-7.8,18.525) 322(-8.2,18.525) 323(-8.6,18.525) 324(-9,18.525) 325(-9.4,18.525) 326(-9.8,18.525) 327(-10.2,18.525) 328(-10.6,18.525) 329(-11,18.525) 330(-11.4,18.525) 331(-11.8,18.525) 332(-12.2,18.525) 333(-12.6,18.525) 334(-13,18.525) 335(-13.4,18.525) 336(-13.8,18.525) 337(-14.2,18.525) 338(-14.6,18.525) 339(-15,18.525) 340(-15.4,18.525) 341(-15.8,18.525) 342(-16.2,18.525) 343(-16.6,18.525) 344(-17,18.525)
Top Overlay:
  circle w0.6: c-16.35,16.35 r0.3
  circle w0.25: c-18.525,17.65 r0.125
  lines w0.2: -17.35,-17.35 17.35,-17.35 17.35,17.35 -17.35,17.35 -17.35,-17.35
Mechanical 13:
  circle w0.1: c-17.1,17.1 r0.5
  lines w0.1: -18,-18 18,-18 18,18 -18,18 -18,-18
Mechanical 15:
  lines w0.1: -0.5,0 0.5,0 ; 0,-0.5 0,0.5 ; -19.4,-19.4 19.4,-19.4 19.4,19.4 -19.4,19.4 -19.4,-19.4
3D body: height 4.2, standoff 0, extent -18,-18 18,18

## SQFP40P3800X3800-352L [mm] "Shrink QFP, 352-Leads, Body 36x36mm, Pitch 0.4mm, IPC High Density"
height 4.2
pads (352):
  oval 1.55x0.2 smd: 1(-18.525,17.4) 2(-18.525,17) 3(-18.525,16.6) 4(-18.525,16.2) 5(-18.525,15.8) 6(-18.525,15.4) 7(-18.525,15) 8(-18.525,14.6) 9(-18.525,14.2) 10(-18.525,13.8) 11(-18.525,13.4) 12(-18.525,13) 13(-18.525,12.6) 14(-18.525,12.2) 15(-18.525,11.8) 16(-18.525,11.4) 17(-18.525,11) 18(-18.525,10.6) 19(-18.525,10.2) 20(-18.525,9.8) 21(-18.525,9.4) 22(-18.525,9) 23(-18.525,8.6) 24(-18.525,8.2) 25(-18.525,7.8) 26(-18.525,7.4) 27(-18.525,7) 28(-18.525,6.6) 29(-18.525,6.2) 30(-18.525,5.8) 31(-18.525,5.4) 32(-18.525,5) 33(-18.525,4.6) 34(-18.525,4.2) 35(-18.525,3.8) 36(-18.525,3.4) 37(-18.525,3) 38(-18.525,2.6) 39(-18.525,2.2) 40(-18.525,1.8) 41(-18.525,1.4) 42(-18.525,1) 43(-18.525,0.6) 44(-18.525,0.2) 45(-18.525,-0.2) 46(-18.525,-0.6) 47(-18.525,-1) 48(-18.525,-1.4) 49(-18.525,-1.8) 50(-18.525,-2.2) 51(-18.525,-2.6) 52(-18.525,-3) 53(-18.525,-3.4) 54(-18.525,-3.8) 55(-18.525,-4.2) 56(-18.525,-4.6) 57(-18.525,-5) 58(-18.525,-5.4) 59(-18.525,-5.8) 60(-18.525,-6.2) 61(-18.525,-6.6) 62(-18.525,-7) 63(-18.525,-7.4) 64(-18.525,-7.8) 65(-18.525,-8.2) 66(-18.525,-8.6) 67(-18.525,-9) 68(-18.525,-9.4) 69(-18.525,-9.8) 70(-18.525,-10.2) 71(-18.525,-10.6) 72(-18.525,-11) 73(-18.525,-11.4) 74(-18.525,-11.8) 75(-18.525,-12.2) 76(-18.525,-12.6) 77(-18.525,-13) 78(-18.525,-13.4) 79(-18.525,-13.8) 80(-18.525,-14.2) 81(-18.525,-14.6) 82(-18.525,-15) 83(-18.525,-15.4) 84(-18.525,-15.8) 85(-18.525,-16.2) 86(-18.525,-16.6) 87(-18.525,-17) 88(-18.525,-17.4) 177(18.525,-17.4) 178(18.525,-17) 179(18.525,-16.6) 180(18.525,-16.2) 181(18.525,-15.8) 182(18.525,-15.4) 183(18.525,-15) 184(18.525,-14.6) 185(18.525,-14.2) 186(18.525,-13.8) 187(18.525,-13.4) 188(18.525,-13) 189(18.525,-12.6) 190(18.525,-12.2) 191(18.525,-11.8) 192(18.525,-11.4) 193(18.525,-11) 194(18.525,-10.6) 195(18.525,-10.2) 196(18.525,-9.8) 197(18.525,-9.4) 198(18.525,-9) 199(18.525,-8.6) 200(18.525,-8.2) 201(18.525,-7.8) 202(18.525,-7.4) 203(18.525,-7) 204(18.525,-6.6) 205(18.525,-6.2) 206(18.525,-5.8) 207(18.525,-5.4) 208(18.525,-5) 209(18.525,-4.6) 210(18.525,-4.2) 211(18.525,-3.8) 212(18.525,-3.4) 213(18.525,-3) 214(18.525,-2.6) 215(18.525,-2.2) 216(18.525,-1.8) 217(18.525,-1.4) 218(18.525,-1) 219(18.525,-0.6) 220(18.525,-0.2) 221(18.525,0.2) 222(18.525,0.6) 223(18.525,1) 224(18.525,1.4) 225(18.525,1.8) 226(18.525,2.2) 227(18.525,2.6) 228(18.525,3) 229(18.525,3.4) 230(18.525,3.8) 231(18.525,4.2) 232(18.525,4.6) 233(18.525,5) 234(18.525,5.4) 235(18.525,5.8) 236(18.525,6.2) 237(18.525,6.6) 238(18.525,7) 239(18.525,7.4) 240(18.525,7.8) 241(18.525,8.2) 242(18.525,8.6) 243(18.525,9) 244(18.525,9.4) 245(18.525,9.8) 246(18.525,10.2) 247(18.525,10.6) 248(18.525,11) 249(18.525,11.4) 250(18.525,11.8) 251(18.525,12.2) 252(18.525,12.6) 253(18.525,13) 254(18.525,13.4) 255(18.525,13.8) 256(18.525,14.2) 257(18.525,14.6) 258(18.525,15) 259(18.525,15.4) 260(18.525,15.8) 261(18.525,16.2) 262(18.525,16.6) 263(18.525,17) 264(18.525,17.4)
  oval 0.2x1.55 smd: 89(-17.4,-18.525) 90(-17,-18.525) 91(-16.6,-18.525) 92(-16.2,-18.525) 93(-15.8,-18.525) 94(-15.4,-18.525) 95(-15,-18.525) 96(-14.6,-18.525) 97(-14.2,-18.525) 98(-13.8,-18.525) 99(-13.4,-18.525) 100(-13,-18.525) 101(-12.6,-18.525) 102(-12.2,-18.525) 103(-11.8,-18.525) 104(-11.4,-18.525) 105(-11,-18.525) 106(-10.6,-18.525) 107(-10.2,-18.525) 108(-9.8,-18.525) 109(-9.4,-18.525) 110(-9,-18.525) 111(-8.6,-18.525) 112(-8.2,-18.525) 113(-7.8,-18.525) 114(-7.4,-18.525) 115(-7,-18.525) 116(-6.6,-18.525) 117(-6.2,-18.525) 118(-5.8,-18.525) 119(-5.4,-18.525) 120(-5,-18.525) 121(-4.6,-18.525) 122(-4.2,-18.525) 123(-3.8,-18.525) 124(-3.4,-18.525) 125(-3,-18.525) 126(-2.6,-18.525) 127(-2.2,-18.525) 128(-1.8,-18.525) 129(-1.4,-18.525) 130(-1,-18.525) 131(-0.6,-18.525) 132(-0.2,-18.525) 133(0.2,-18.525) 134(0.6,-18.525) 135(1,-18.525) 136(1.4,-18.525) 137(1.8,-18.525) 138(2.2,-18.525) 139(2.6,-18.525) 140(3,-18.525) 141(3.4,-18.525) 142(3.8,-18.525) 143(4.2,-18.525) 144(4.6,-18.525) 145(5,-18.525) 146(5.4,-18.525) 147(5.8,-18.525) 148(6.2,-18.525) 149(6.6,-18.525) 150(7,-18.525) 151(7.4,-18.525) 152(7.8,-18.525) 153(8.2,-18.525) 154(8.6,-18.525) 155(9,-18.525) 156(9.4,-18.525) 157(9.8,-18.525) 158(10.2,-18.525) 159(10.6,-18.525) 160(11,-18.525) 161(11.4,-18.525) 162(11.8,-18.525) 163(12.2,-18.525) 164(12.6,-18.525) 165(13,-18.525) 166(13.4,-18.525) 167(13.8,-18.525) 168(14.2,-18.525) 169(14.6,-18.525) 170(15,-18.525) 171(15.4,-18.525) 172(15.8,-18.525) 173(16.2,-18.525) 174(16.6,-18.525) 175(17,-18.525) 176(17.4,-18.525) 265(17.4,18.525) 266(17,18.525) 267(16.6,18.525) 268(16.2,18.525) 269(15.8,18.525) 270(15.4,18.525) 271(15,18.525) 272(14.6,18.525) 273(14.2,18.525) 274(13.8,18.525) 275(13.4,18.525) 276(13,18.525) 277(12.6,18.525) 278(12.2,18.525) 279(11.8,18.525) 280(11.4,18.525) 281(11,18.525) 282(10.6,18.525) 283(10.2,18.525) 284(9.8,18.525) 285(9.4,18.525) 286(9,18.525) 287(8.6,18.525) 288(8.2,18.525) 289(7.8,18.525) 290(7.4,18.525) 291(7,18.525) 292(6.6,18.525) 293(6.2,18.525) 294(5.8,18.525) 295(5.4,18.525) 296(5,18.525) 297(4.6,18.525) 298(4.2,18.525) 299(3.8,18.525) 300(3.4,18.525) 301(3,18.525) 302(2.6,18.525) 303(2.2,18.525) 304(1.8,18.525) 305(1.4,18.525) 306(1,18.525) 307(0.6,18.525) 308(0.2,18.525) 309(-0.2,18.525) 310(-0.6,18.525) 311(-1,18.525) 312(-1.4,18.525) 313(-1.8,18.525) 314(-2.2,18.525) 315(-2.6,18.525) 316(-3,18.525) 317(-3.4,18.525) 318(-3.8,18.525) 319(-4.2,18.525) 320(-4.6,18.525) 321(-5,18.525) 322(-5.4,18.525) 323(-5.8,18.525) 324(-6.2,18.525) 325(-6.6,18.525) 326(-7,18.525) 327(-7.4,18.525) 328(-7.8,18.525) 329(-8.2,18.525) 330(-8.6,18.525) 331(-9,18.525) 332(-9.4,18.525) 333(-9.8,18.525) 334(-10.2,18.525) 335(-10.6,18.525) 336(-11,18.525) 337(-11.4,18.525) 338(-11.8,18.525) 339(-12.2,18.525) 340(-12.6,18.525) 341(-13,18.525) 342(-13.4,18.525) 343(-13.8,18.525) 344(-14.2,18.525) 345(-14.6,18.525) 346(-15,18.525) 347(-15.4,18.525) 348(-15.8,18.525) 349(-16.2,18.525) 350(-16.6,18.525) 351(-17,18.525) 352(-17.4,18.525)
Top Overlay:
  circle w0.6: c-16.35,16.35 r0.3
  circle w0.25: c-18.525,18.05 r0.125
  lines w0.2: -17.35,-17.35 17.35,-17.35 17.35,17.35 -17.35,17.35 -17.35,-17.35
Mechanical 13:
  circle w0.1: c-17.1,17.1 r0.5
  lines w0.1: -18,-18 18,-18 18,18 -18,18 -18,-18
Mechanical 15:
  lines w0.1: -0.5,0 0.5,0 ; 0,-0.5 0,0.5 ; -19.4,-19.4 19.4,-19.4 19.4,19.4 -19.4,19.4 -19.4,-19.4
3D body: height 4.2, standoff 0, extent -18,-18 18,18

## SQFP40P4200X4200-384L [mm] "Shrink QFP, 384-Leads, Body 40x40mm, Pitch 0.4mm, IPC High Density"
height 4.2
pads (384):
  oval 1.55x0.2 smd: 1(-20.525,19) 2(-20.525,18.6) 3(-20.525,18.2) 4(-20.525,17.8) 5(-20.525,17.4) 6(-20.525,17) 7(-20.525,16.6) 8(-20.525,16.2) 9(-20.525,15.8) 10(-20.525,15.4) 11(-20.525,15) 12(-20.525,14.6) 13(-20.525,14.2) 14(-20.525,13.8) 15(-20.525,13.4) 16(-20.525,13) 17(-20.525,12.6) 18(-20.525,12.2) 19(-20.525,11.8) 20(-20.525,11.4) 21(-20.525,11) 22(-20.525,10.6) 23(-20.525,10.2) 24(-20.525,9.8) 25(-20.525,9.4) 26(-20.525,9) 27(-20.525,8.6) 28(-20.525,8.2) 29(-20.525,7.8) 30(-20.525,7.4) 31(-20.525,7) 32(-20.525,6.6) 33(-20.525,6.2) 34(-20.525,5.8) 35(-20.525,5.4) 36(-20.525,5) 37(-20.525,4.6) 38(-20.525,4.2) 39(-20.525,3.8) 40(-20.525,3.4) 41(-20.525,3) 42(-20.525,2.6) 43(-20.525,2.2) 44(-20.525,1.8) 45(-20.525,1.4) 46(-20.525,1) 47(-20.525,0.6) 48(-20.525,0.2) 49(-20.525,-0.2) 50(-20.525,-0.6) 51(-20.525,-1) 52(-20.525,-1.4) 53(-20.525,-1.8) 54(-20.525,-2.2) 55(-20.525,-2.6) 56(-20.525,-3) 57(-20.525,-3.4) 58(-20.525,-3.8) 59(-20.525,-4.2) 60(-20.525,-4.6) 61(-20.525,-5) 62(-20.525,-5.4) 63(-20.525,-5.8) 64(-20.525,-6.2) 65(-20.525,-6.6) 66(-20.525,-7) 67(-20.525,-7.4) 68(-20.525,-7.8) 69(-20.525,-8.2) 70(-20.525,-8.6) 71(-20.525,-9) 72(-20.525,-9.4) 73(-20.525,-9.8) 74(-20.525,-10.2) 75(-20.525,-10.6) 76(-20.525,-11) 77(-20.525,-11.4) 78(-20.525,-11.8) 79(-20.525,-12.2) 80(-20.525,-12.6) 81(-20.525,-13) 82(-20.525,-13.4) 83(-20.525,-13.8) 84(-20.525,-14.2) 85(-20.525,-14.6) 86(-20.525,-15) 87(-20.525,-15.4) 88(-20.525,-15.8) 89(-20.525,-16.2) 90(-20.525,-16.6) 91(-20.525,-17) 92(-20.525,-17.4) 93(-20.525,-17.8) 94(-20.525,-18.2) 95(-20.525,-18.6) 96(-20.525,-19) 193(20.525,-19) 194(20.525,-18.6) 195(20.525,-18.2) 196(20.525,-17.8) 197(20.525,-17.4) 198(20.525,-17) 199(20.525,-16.6) 200(20.525,-16.2) 201(20.525,-15.8) 202(20.525,-15.4) 203(20.525,-15) 204(20.525,-14.6) 205(20.525,-14.2) 206(20.525,-13.8) 207(20.525,-13.4) 208(20.525,-13) 209(20.525,-12.6) 210(20.525,-12.2) 211(20.525,-11.8) 212(20.525,-11.4) 213(20.525,-11) 214(20.525,-10.6) 215(20.525,-10.2) 216(20.525,-9.8) 217(20.525,-9.4) 218(20.525,-9) 219(20.525,-8.6) 220(20.525,-8.2) 221(20.525,-7.8) 222(20.525,-7.4) 223(20.525,-7) 224(20.525,-6.6) 225(20.525,-6.2) 226(20.525,-5.8) 227(20.525,-5.4) 228(20.525,-5) 229(20.525,-4.6) 230(20.525,-4.2) 231(20.525,-3.8) 232(20.525,-3.4) 233(20.525,-3) 234(20.525,-2.6) 235(20.525,-2.2) 236(20.525,-1.8) 237(20.525,-1.4) 238(20.525,-1) 239(20.525,-0.6) 240(20.525,-0.2) 241(20.525,0.2) 242(20.525,0.6) 243(20.525,1) 244(20.525,1.4) 245(20.525,1.8) 246(20.525,2.2) 247(20.525,2.6) 248(20.525,3) 249(20.525,3.4) 250(20.525,3.8) 251(20.525,4.2) 252(20.525,4.6) 253(20.525,5) 254(20.525,5.4) 255(20.525,5.8) 256(20.525,6.2) 257(20.525,6.6) 258(20.525,7) 259(20.525,7.4) 260(20.525,7.8) 261(20.525,8.2) 262(20.525,8.6) 263(20.525,9) 264(20.525,9.4) 265(20.525,9.8) 266(20.525,10.2) 267(20.525,10.6) 268(20.525,11) 269(20.525,11.4) 270(20.525,11.8) 271(20.525,12.2) 272(20.525,12.6) 273(20.525,13) 274(20.525,13.4) 275(20.525,13.8) 276(20.525,14.2) 277(20.525,14.6) 278(20.525,15) 279(20.525,15.4) 280(20.525,15.8) 281(20.525,16.2) 282(20.525,16.6) 283(20.525,17) 284(20.525,17.4) 285(20.525,17.8) 286(20.525,18.2) 287(20.525,18.6) 288(20.525,19)
  oval 0.2x1.55 smd: 97(-19,-20.525) 98(-18.6,-20.525) 99(-18.2,-20.525) 100(-17.8,-20.525) 101(-17.4,-20.525) 102(-17,-20.525) 103(-16.6,-20.525) 104(-16.2,-20.525) 105(-15.8,-20.525) 106(-15.4,-20.525) 107(-15,-20.525) 108(-14.6,-20.525) 109(-14.2,-20.525) 110(-13.8,-20.525) 111(-13.4,-20.525) 112(-13,-20.525) 113(-12.6,-20.525) 114(-12.2,-20.525) 115(-11.8,-20.525) 116(-11.4,-20.525) 117(-11,-20.525) 118(-10.6,-20.525) 119(-10.2,-20.525) 120(-9.8,-20.525) 121(-9.4,-20.525) 122(-9,-20.525) 123(-8.6,-20.525) 124(-8.2,-20.525) 125(-7.8,-20.525) 126(-7.4,-20.525) 127(-7,-20.525) 128(-6.6,-20.525) 129(-6.2,-20.525) 130(-5.8,-20.525) 131(-5.4,-20.525) 132(-5,-20.525) 133(-4.6,-20.525) 134(-4.2,-20.525) 135(-3.8,-20.525) 136(-3.4,-20.525) 137(-3,-20.525) 138(-2.6,-20.525) 139(-2.2,-20.525) 140(-1.8,-20.525) 141(-1.4,-20.525) 142(-1,-20.525) 143(-0.6,-20.525) 144(-0.2,-20.525) 145(0.2,-20.525) 146(0.6,-20.525) 147(1,-20.525) 148(1.4,-20.525) 149(1.8,-20.525) 150(2.2,-20.525) 151(2.6,-20.525) 152(3,-20.525) 153(3.4,-20.525) 154(3.8,-20.525) 155(4.2,-20.525) 156(4.6,-20.525) 157(5,-20.525) 158(5.4,-20.525) 159(5.8,-20.525) 160(6.2,-20.525) 161(6.6,-20.525) 162(7,-20.525) 163(7.4,-20.525) 164(7.8,-20.525) 165(8.2,-20.525) 166(8.6,-20.525) 167(9,-20.525) 168(9.4,-20.525) 169(9.8,-20.525) 170(10.2,-20.525) 171(10.6,-20.525) 172(11,-20.525) 173(11.4,-20.525) 174(11.8,-20.525) 175(12.2,-20.525) 176(12.6,-20.525) 177(13,-20.525) 178(13.4,-20.525) 179(13.8,-20.525) 180(14.2,-20.525) 181(14.6,-20.525) 182(15,-20.525) 183(15.4,-20.525) 184(15.8,-20.525) 185(16.2,-20.525) 186(16.6,-20.525) 187(17,-20.525) 188(17.4,-20.525) 189(17.8,-20.525) 190(18.2,-20.525) 191(18.6,-20.525) 192(19,-20.525) 289(19,20.525) 290(18.6,20.525) 291(18.2,20.525) 292(17.8,20.525) 293(17.4,20.525) 294(17,20.525) 295(16.6,20.525) 296(16.2,20.525) 297(15.8,20.525) 298(15.4,20.525) 299(15,20.525) 300(14.6,20.525) 301(14.2,20.525) 302(13.8,20.525) 303(13.4,20.525) 304(13,20.525) 305(12.6,20.525) 306(12.2,20.525) 307(11.8,20.525) 308(11.4,20.525) 309(11,20.525) 310(10.6,20.525) 311(10.2,20.525) 312(9.8,20.525) 313(9.4,20.525) 314(9,20.525) 315(8.6,20.525) 316(8.2,20.525) 317(7.8,20.525) 318(7.4,20.525) 319(7,20.525) 320(6.6,20.525) 321(6.2,20.525) 322(5.8,20.525) 323(5.4,20.525) 324(5,20.525) 325(4.6,20.525) 326(4.2,20.525) 327(3.8,20.525) 328(3.4,20.525) 329(3,20.525) 330(2.6,20.525) 331(2.2,20.525) 332(1.8,20.525) 333(1.4,20.525) 334(1,20.525) 335(0.6,20.525) 336(0.2,20.525) 337(-0.2,20.525) 338(-0.6,20.525) 339(-1,20.525) 340(-1.4,20.525) 341(-1.8,20.525) 342(-2.2,20.525) 343(-2.6,20.525) 344(-3,20.525) 345(-3.4,20.525) 346(-3.8,20.525) 347(-4.2,20.525) 348(-4.6,20.525) 349(-5,20.525) 350(-5.4,20.525) 351(-5.8,20.525) 352(-6.2,20.525) 353(-6.6,20.525) 354(-7,20.525) 355(-7.4,20.525) 356(-7.8,20.525) 357(-8.2,20.525) 358(-8.6,20.525) 359(-9,20.525) 360(-9.4,20.525) 361(-9.8,20.525) 362(-10.2,20.525) 363(-10.6,20.525) 364(-11,20.525) 365(-11.4,20.525) 366(-11.8,20.525) 367(-12.2,20.525) 368(-12.6,20.525) 369(-13,20.525) 370(-13.4,20.525) 371(-13.8,20.525) 372(-14.2,20.525) 373(-14.6,20.525) 374(-15,20.525) 375(-15.4,20.525) 376(-15.8,20.525) 377(-16.2,20.525) 378(-16.6,20.525) 379(-17,20.525) 380(-17.4,20.525) 381(-17.8,20.525) 382(-18.2,20.525) 383(-18.6,20.525) 384(-19,20.525)
Top Overlay:
  circle w0.6: c-18.35,18.35 r0.3
  circle w0.25: c-20.525,19.65 r0.125
  lines w0.2: -19.35,-19.35 19.35,-19.35 19.35,19.35 -19.35,19.35 -19.35,-19.35
Mechanical 13:
  circle w0.1: c-19.1,19.1 r0.5
  lines w0.1: -20,-20 20,-20 20,20 -20,20 -20,-20
Mechanical 15:
  lines w0.1: -0.5,0 0.5,0 ; 0,-0.5 0,0.5 ; -21.4,-21.4 21.4,-21.4 21.4,21.4 -21.4,21.4 -21.4,-21.4
3D body: height 4.2, standoff 0, extent -20,-20 20,20

## SQFP40P4200X4200-392L [mm] "Shrink QFP, 392-Leads, Body 40x40mm, Pitch 0.4mm, IPC High Density"
height 4.2
pads (392):
  oval 1.55x0.2 smd: 1(-20.525,19.4) 2(-20.525,19) 3(-20.525,18.6) 4(-20.525,18.2) 5(-20.525,17.8) 6(-20.525,17.4) 7(-20.525,17) 8(-20.525,16.6) 9(-20.525,16.2) 10(-20.525,15.8) 11(-20.525,15.4) 12(-20.525,15) 13(-20.525,14.6) 14(-20.525,14.2) 15(-20.525,13.8) 16(-20.525,13.4) 17(-20.525,13) 18(-20.525,12.6) 19(-20.525,12.2) 20(-20.525,11.8) 21(-20.525,11.4) 22(-20.525,11) 23(-20.525,10.6) 24(-20.525,10.2) 25(-20.525,9.8) 26(-20.525,9.4) 27(-20.525,9) 28(-20.525,8.6) 29(-20.525,8.2) 30(-20.525,7.8) 31(-20.525,7.4) 32(-20.525,7) 33(-20.525,6.6) 34(-20.525,6.2) 35(-20.525,5.8) 36(-20.525,5.4) 37(-20.525,5) 38(-20.525,4.6) 39(-20.525,4.2) 40(-20.525,3.8) 41(-20.525,3.4) 42(-20.525,3) 43(-20.525,2.6) 44(-20.525,2.2) 45(-20.525,1.8) 46(-20.525,1.4) 47(-20.525,1) 48(-20.525,0.6) 49(-20.525,0.2) 50(-20.525,-0.2) 51(-20.525,-0.6) 52(-20.525,-1) 53(-20.525,-1.4) 54(-20.525,-1.8) 55(-20.525,-2.2) 56(-20.525,-2.6) 57(-20.525,-3) 58(-20.525,-3.4) 59(-20.525,-3.8) 60(-20.525,-4.2) 61(-20.525,-4.6) 62(-20.525,-5) 63(-20.525,-5.4) 64(-20.525,-5.8) 65(-20.525,-6.2) 66(-20.525,-6.6) 67(-20.525,-7) 68(-20.525,-7.4) 69(-20.525,-7.8) 70(-20.525,-8.2) 71(-20.525,-8.6) 72(-20.525,-9) 73(-20.525,-9.4) 74(-20.525,-9.8) 75(-20.525,-10.2) 76(-20.525,-10.6) 77(-20.525,-11) 78(-20.525,-11.4) 79(-20.525,-11.8) 80(-20.525,-12.2) 81(-20.525,-12.6) 82(-20.525,-13) 83(-20.525,-13.4) 84(-20.525,-13.8) 85(-20.525,-14.2) 86(-20.525,-14.6) 87(-20.525,-15) 88(-20.525,-15.4) 89(-20.525,-15.8) 90(-20.525,-16.2) 91(-20.525,-16.6) 92(-20.525,-17) 93(-20.525,-17.4) 94(-20.525,-17.8) 95(-20.525,-18.2) 96(-20.525,-18.6) 97(-20.525,-19) 98(-20.525,-19.4) 197(20.525,-19.4) 198(20.525,-19) 199(20.525,-18.6) 200(20.525,-18.2) 201(20.525,-17.8) 202(20.525,-17.4) 203(20.525,-17) 204(20.525,-16.6) 205(20.525,-16.2) 206(20.525,-15.8) 207(20.525,-15.4) 208(20.525,-15) 209(20.525,-14.6) 210(20.525,-14.2) 211(20.525,-13.8) 212(20.525,-13.4) 213(20.525,-13) 214(20.525,-12.6) 215(20.525,-12.2) 216(20.525,-11.8) 217(20.525,-11.4) 218(20.525,-11) 219(20.525,-10.6) 220(20.525,-10.2) 221(20.525,-9.8) 222(20.525,-9.4) 223(20.525,-9) 224(20.525,-8.6) 225(20.525,-8.2) 226(20.525,-7.8) 227(20.525,-7.4) 228(20.525,-7) 229(20.525,-6.6) 230(20.525,-6.2) 231(20.525,-5.8) 232(20.525,-5.4) 233(20.525,-5) 234(20.525,-4.6) 235(20.525,-4.2) 236(20.525,-3.8) 237(20.525,-3.4) 238(20.525,-3) 239(20.525,-2.6) 240(20.525,-2.2) 241(20.525,-1.8) 242(20.525,-1.4) 243(20.525,-1) 244(20.525,-0.6) 245(20.525,-0.2) 246(20.525,0.2) 247(20.525,0.6) 248(20.525,1) 249(20.525,1.4) 250(20.525,1.8) 251(20.525,2.2) 252(20.525,2.6) 253(20.525,3) 254(20.525,3.4) 255(20.525,3.8) 256(20.525,4.2) 257(20.525,4.6) 258(20.525,5) 259(20.525,5.4) 260(20.525,5.8) 261(20.525,6.2) 262(20.525,6.6) 263(20.525,7) 264(20.525,7.4) 265(20.525,7.8) 266(20.525,8.2) 267(20.525,8.6) 268(20.525,9) 269(20.525,9.4) 270(20.525,9.8) 271(20.525,10.2) 272(20.525,10.6) 273(20.525,11) 274(20.525,11.4) 275(20.525,11.8) 276(20.525,12.2) 277(20.525,12.6) 278(20.525,13) 279(20.525,13.4) 280(20.525,13.8) 281(20.525,14.2) 282(20.525,14.6) 283(20.525,15) 284(20.525,15.4) 285(20.525,15.8) 286(20.525,16.2) 287(20.525,16.6) 288(20.525,17) 289(20.525,17.4) 290(20.525,17.8) 291(20.525,18.2) 292(20.525,18.6) 293(20.525,19) 294(20.525,19.4)
  oval 0.2x1.55 smd: 99(-19.4,-20.525) 100(-19,-20.525) 101(-18.6,-20.525) 102(-18.2,-20.525) 103(-17.8,-20.525) 104(-17.4,-20.525) 105(-17,-20.525) 106(-16.6,-20.525) 107(-16.2,-20.525) 108(-15.8,-20.525) 109(-15.4,-20.525) 110(-15,-20.525) 111(-14.6,-20.525) 112(-14.2,-20.525) 113(-13.8,-20.525) 114(-13.4,-20.525) 115(-13,-20.525) 116(-12.6,-20.525) 117(-12.2,-20.525) 118(-11.8,-20.525) 119(-11.4,-20.525) 120(-11,-20.525) 121(-10.6,-20.525) 122(-10.2,-20.525) 123(-9.8,-20.525) 124(-9.4,-20.525) 125(-9,-20.525) 126(-8.6,-20.525) 127(-8.2,-20.525) 128(-7.8,-20.525) 129(-7.4,-20.525) 130(-7,-20.525) 131(-6.6,-20.525) 132(-6.2,-20.525) 133(-5.8,-20.525) 134(-5.4,-20.525) 135(-5,-20.525) 136(-4.6,-20.525) 137(-4.2,-20.525) 138(-3.8,-20.525) 139(-3.4,-20.525) 140(-3,-20.525) 141(-2.6,-20.525) 142(-2.2,-20.525) 143(-1.8,-20.525) 144(-1.4,-20.525) 145(-1,-20.525) 146(-0.6,-20.525) 147(-0.2,-20.525) 148(0.2,-20.525) 149(0.6,-20.525) 150(1,-20.525) 151(1.4,-20.525) 152(1.8,-20.525) 153(2.2,-20.525) 154(2.6,-20.525) 155(3,-20.525) 156(3.4,-20.525) 157(3.8,-20.525) 158(4.2,-20.525) 159(4.6,-20.525) 160(5,-20.525) 161(5.4,-20.525) 162(5.8,-20.525) 163(6.2,-20.525) 164(6.6,-20.525) 165(7,-20.525) 166(7.4,-20.525) 167(7.8,-20.525) 168(8.2,-20.525) 169(8.6,-20.525) 170(9,-20.525) 171(9.4,-20.525) 172(9.8,-20.525) 173(10.2,-20.525) 174(10.6,-20.525) 175(11,-20.525) 176(11.4,-20.525) 177(11.8,-20.525) 178(12.2,-20.525) 179(12.6,-20.525) 180(13,-20.525) 181(13.4,-20.525) 182(13.8,-20.525) 183(14.2,-20.525) 184(14.6,-20.525) 185(15,-20.525) 186(15.4,-20.525) 187(15.8,-20.525) 188(16.2,-20.525) 189(16.6,-20.525) 190(17,-20.525) 191(17.4,-20.525) 192(17.8,-20.525) 193(18.2,-20.525) 194(18.6,-20.525) 195(19,-20.525) 196(19.4,-20.525) 295(19.4,20.525) 296(19,20.525) 297(18.6,20.525) 298(18.2,20.525) 299(17.8,20.525) 300(17.4,20.525) 301(17,20.525) 302(16.6,20.525) 303(16.2,20.525) 304(15.8,20.525) 305(15.4,20.525) 306(15,20.525) 307(14.6,20.525) 308(14.2,20.525) 309(13.8,20.525) 310(13.4,20.525) 311(13,20.525) 312(12.6,20.525) 313(12.2,20.525) 314(11.8,20.525) 315(11.4,20.525) 316(11,20.525) 317(10.6,20.525) 318(10.2,20.525) 319(9.8,20.525) 320(9.4,20.525) 321(9,20.525) 322(8.6,20.525) 323(8.2,20.525) 324(7.8,20.525) 325(7.4,20.525) 326(7,20.525) 327(6.6,20.525) 328(6.2,20.525) 329(5.8,20.525) 330(5.4,20.525) 331(5,20.525) 332(4.6,20.525) 333(4.2,20.525) 334(3.8,20.525) 335(3.4,20.525) 336(3,20.525) 337(2.6,20.525) 338(2.2,20.525) 339(1.8,20.525) 340(1.4,20.525) 341(1,20.525) 342(0.6,20.525) 343(0.2,20.525) 344(-0.2,20.525) 345(-0.6,20.525) 346(-1,20.525) 347(-1.4,20.525) 348(-1.8,20.525) 349(-2.2,20.525) 350(-2.6,20.525) 351(-3,20.525) 352(-3.4,20.525) 353(-3.8,20.525) 354(-4.2,20.525) 355(-4.6,20.525) 356(-5,20.525) 357(-5.4,20.525) 358(-5.8,20.525) 359(-6.2,20.525) 360(-6.6,20.525) 361(-7,20.525) 362(-7.4,20.525) 363(-7.8,20.525) 364(-8.2,20.525) 365(-8.6,20.525) 366(-9,20.525) 367(-9.4,20.525) 368(-9.8,20.525) 369(-10.2,20.525) 370(-10.6,20.525) 371(-11,20.525) 372(-11.4,20.525) 373(-11.8,20.525) 374(-12.2,20.525) 375(-12.6,20.525) 376(-13,20.525) 377(-13.4,20.525) 378(-13.8,20.525) 379(-14.2,20.525) 380(-14.6,20.525) 381(-15,20.525) 382(-15.4,20.525) 383(-15.8,20.525) 384(-16.2,20.525) 385(-16.6,20.525) 386(-17,20.525) 387(-17.4,20.525) 388(-17.8,20.525) 389(-18.2,20.525) 390(-18.6,20.525) 391(-19,20.525) 392(-19.4,20.525)
Top Overlay:
  circle w0.6: c-18.35,18.35 r0.3
  circle w0.25: c-20.525,20.05 r0.125
  lines w0.2: -19.35,-19.35 19.35,-19.35 19.35,19.35 -19.35,19.35 -19.35,-19.35
Mechanical 13:
  circle w0.1: c-19.1,19.1 r0.5
  lines w0.1: -20,-20 20,-20 20,20 -20,20 -20,-20
Mechanical 15:
  lines w0.1: -0.5,0 0.5,0 ; 0,-0.5 0,0.5 ; -21.4,-21.4 21.4,-21.4 21.4,21.4 -21.4,21.4 -21.4,-21.4
3D body: height 4.2, standoff 0, extent -20,-20 20,20